# Altium schematic symbol library protogen_v2.SchLib: 9 symbols
Pins are listed as number, name and electrical type; pins without a type are passive.

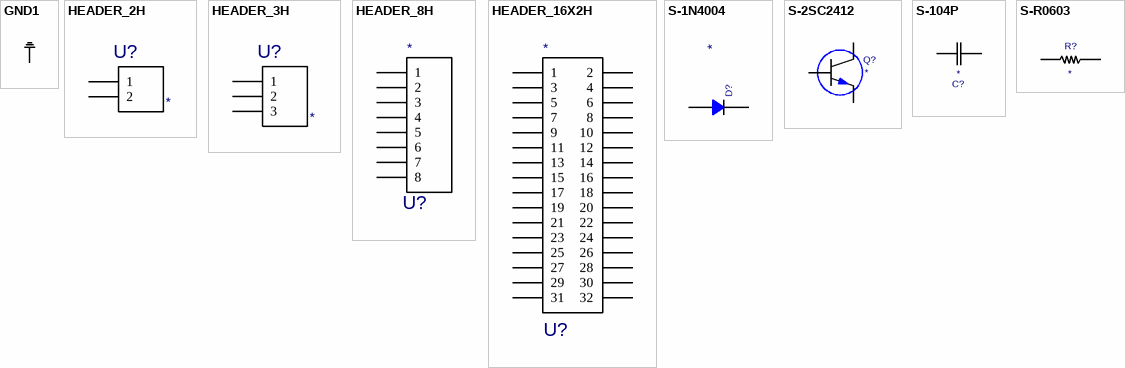
[diagram p0: symbols GND1 to S-R0603]

## GND1
designator GND?  (value not drawn)
Value: *
pins: 1 GND (power)

## HEADER_2H
designator U?  (value not drawn)
Value: *
footprint HDR1X2H
pins: 1, 2

## HEADER_3H
designator U?  (value not drawn)
Value: *
footprint HDR1X3H
pins: 1, 2, 3

## HEADER_8H
designator U?  (value not drawn)
Value: *
footprint HDR1X8H
pins: 1, 2, 3, 4, 5, 6, 7, 8

## HEADER_16X2H
designator U?  (value not drawn)
Value: *
footprint HDR2X16H
pins: 1, 2, 3, 4, 5, 6, 7, 8, 9, 10, 11, 12, 13, 14, 15, 16, 17, 18, 19, 20, 21, 22, 23, 24, 25, 26, 27, 28, 29, 30, 31, 32

## S-1N4004
designator D?  (value not drawn)
Value: *
footprint D2010
pins: 1, 2

## S-2SC2412
designator Q?  (value not drawn)
Value: *
footprint SOT-23
pins: 1, 2, 3

## S-104P
designator C?  (value not drawn)
Value: *
footprint CC0603
pins: 1, 2

## S-R0603
designator R?  (value not drawn)
Value: *
footprint R0603
pins: A, B